# Altium footprint library MCUBoards.PcbLib: 2 footprints
Each footprint in its own frame and in the unit in brackets; x right, y up, seen from the top. Pads: shape width x height; smd on the part's side, far side on the other; paste and mask are expansions set on the pad; w line width, h text height; cw(c..) or ccw(c..) is an arc to the next point about the centre after c.
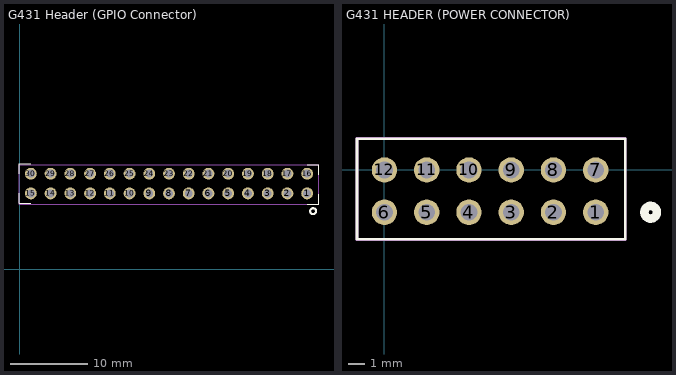
[diagram p0: the footprints below, top view; thin cyan lines are the x and y axes]

## G431 Header (GPIO Connector) [mil] "30 Position Header Connector 0.100\" (2.54mm) Through Hole, Right Angle Gold"
pads (30):
  round 60 hole 40.16: 1(1455,385) 2(1355,385) 3(1255,385) 4(1155,385) 5(1055,385) 6(955,385) 7(855,385) 8(755,385) 9(655,385) 10(555,385) 11(455,385) 12(355,385) 13(255,385) 14(155,385) 15(55,385) 16(1455,485) 17(1355,485) 18(1255,485) 19(1155,485) 20(1055,485) 21(955,485) 22(855,485) 23(755,485) 24(655,485) 25(555,485) 26(455,485) 27(355,485) 28(255,485) 29(155,485) 30(55,485)
Top Overlay:
  lines w5: -5,385 -5,335 55,335 ; -5,485 -5,535 55,535 ; 1455,330 1515,330 1515,380 ; 1455,530 1515,530 1515,480
  lines w10.5: 1474.68,283.89 cw(c1485,295) 1475.1,283.52
Mechanical 15:
  lines w2: -5,330 1515,330 1515,530 -5,530 -5,330
3D body "PPPC152LJBN-RC.stp": height 207.87, standoff -131.89, extent -4.84,-10 1514.84,499.45

## G431 HEADER (POWER CONNECTOR) [mil] "12 Position Header Connector 0.100\" (2.54mm) Through Hole, Right Angle Gold"
pads (12):
  round 60 hole 40 mask+0: 1(500,-100) 2(400,-100) 3(300,-100) 4(200,-100) 5(100,-100) 6(0,-100) 7(500,0) 8(400,0) 9(300,0) 10(200,0) 11(100,0) 12(0,0)
Top Overlay:
  circle w20: c630,-100 r15
  lines w6: -65,-163.5 -65,73.5 570,73.5 570,-163.5 -65,-163.5
Mechanical 15:
  lines w6: -65,-165 -65,75 570,75 570,-165 -65,-165
3D body "PPPC062LJBN-RC.stp": height 200, standoff -131.89, extent -55,-494.72 564.68,14.72
3D body: height 10, standoff 0, extent 490,-110 500,-100